# Altium schematic symbol library JD_RF_Detector.SchLib: 1 symbol
Pins are listed as number, name and electrical type; pins without a type are passive.

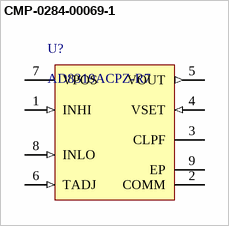
[diagram p0: symbol CMP-0284-00069-1]

## CMP-0284-00069-1
designator U?, comment AD8319ACPZ-R7
1 MHz to 10 GHz, 45 dB Log Detector/Controller, 6ns Response Time, CP-8-1, Pb-Free, 3000 Reel; Temp Stability (dB): 500mdB; Voltage Supply (V): 3 to 5.5; Dynamic Range (dB): 45dB; Product Description: Available in Die; Supply Current: 22mA; RF Frequency (MHz): 1 to 10000; PackageReference: CP-8-1; ComponentLink3Description: Package Specification; ComponentLink3URL: http://www.analog.com/static/imported-files/packages/PKG_PDF/LFCSP(CP)/CP-8/CP_8_1.pdf; ComponentLink1Description: Manufacturer URL; Response Time (ns typ): 6ns; ComponentLink2URL: http://www.analog.com/static/imported-files/data_sheets/AD8319.pdf; PackageVersion: 031207-A; ComponentLink2Description: Datasheet; DatasheetVersion: Rev. B; PackageDescription: 8-Lead Lead Frame Chip Scale Package [LFCSP_VD]; ComponentLink1URL: www.analog.com
footprint ADI-CP-8-1_L (SON, 8-Leads, Body 3x2mm, Pitch 0.5mm, Thermal Pad 1.75x0.45mm, IPC High Density)
footprint ADI-CP-8-1_N (SON, 8-Leads, Body 3x2mm, Pitch 0.5mm, Thermal Pad 1.75x0.45mm, IPC Medium Density)
footprint ADI-CP-8-1_M (SON, 8-Leads, Body 3x2mm, Pitch 0.5mm, Thermal Pad 1.75x0.45mm, IPC Low Density)
pins: 1 INHI (in) "RF Input. Nominal input range of -50 dBm to 0 dBm, re: 50 ohm; ac-coupled RF input.", 2 COMM (power) "Device Common. Connect to a low impedance ground plane.", 3 CLPF "Loop Filter Capacitor. In measurement mode, this capacitor sets the pulse response time and video bandwidth. In controller mode, the capacitance on this node sets the response time of the error amplifier/integrator.", 4 VSET (in) "Setpoint Control Input for Controller Mode or Feedback Input for Measurement Mode.", 5 VOUT (out) "Measurement and Controller Output. In measurement mode, VOUT provides a decreasing linear-in-dB representation of the RF input signal amplitude.[see datasheet].", 6 TADJ (in) "Temperature Compensation Adjustment. Frequency-dependent temperature compensation is set by connecting a ground-referenced resistor to this pin.", 7 VPOS (power) "Positive Supply Voltage: 3.0 V to 5.5 V.", 8 INLO (in) "RF Common for INHI. AC-coupled RF common.", 9 EP (power) "Internally connected to COMM; solder to a low impedance ground plane."